# EAGLE library part PIC18F26K42 (library IC & Transistor)
PIC18F26K42 Created by: Wai Weng
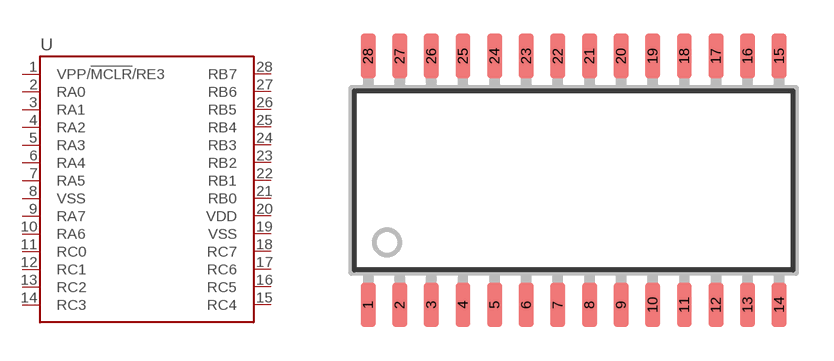
[diagram p83: symbol with the pads of SOIC-28W; footprint SOIC-28W]

Designator prefix U

## PIC18F26K42 (DESC: S PIC18F26K42 SO28; MF: Microchip Technology; MPN: PIC18F26K42-E/SO)  [SOIC-28W]
1  VPP/!MCLR!/RE3
2  RA0
3  RA1
4  RA2
5  RA3
6  RA4
7  RA5
8  VSS
9  RA7
10  RA6
11  RC0
12  RC1
13  RC2
14  RC3
15  RC4
16  RC5
17  RC6
18  RC7
19  VSS
20  VDD
21  RB0
22  RB1
23  RB2
24  RB3
25  RB4
26  RB5
27  RB6
28  RB7

## Footprint SOIC-28W (pad centres in mm)
Small Outline Integrated Circuit (SOIC) Wide (EIAJ) SOIC Package Size: 17.87 x 7.49mm Lead Pitch: 1.27mm Created by: OoiBP
smd 0.6 x 1.8: 1 -8.255,-5; 2 -6.985,-5; 3 -5.715,-5; 4 -4.445,-5; 5 -3.175,-5; 6 -1.905,-5; 7 -0.635,-5; 8 0.635,-5; 9 1.905,-5; 10 3.175,-5; 11 4.445,-5; 12 5.715,-5; 13 6.985,-5; 14 8.255,-5; 15 8.255,5; 16 6.985,5; 17 5.715,5; 18 4.445,5; 19 3.175,5; 20 1.905,5; 21 0.635,5; 22 -0.635,5; 23 -1.905,5; 24 -3.175,5; 25 -4.445,5; 26 -5.715,5; 27 -6.985,5; 28 -8.255,5